# EAGLE library part STM32F107RXTX (library selwx_parts)
STM32 connectivity line LQFP64 package
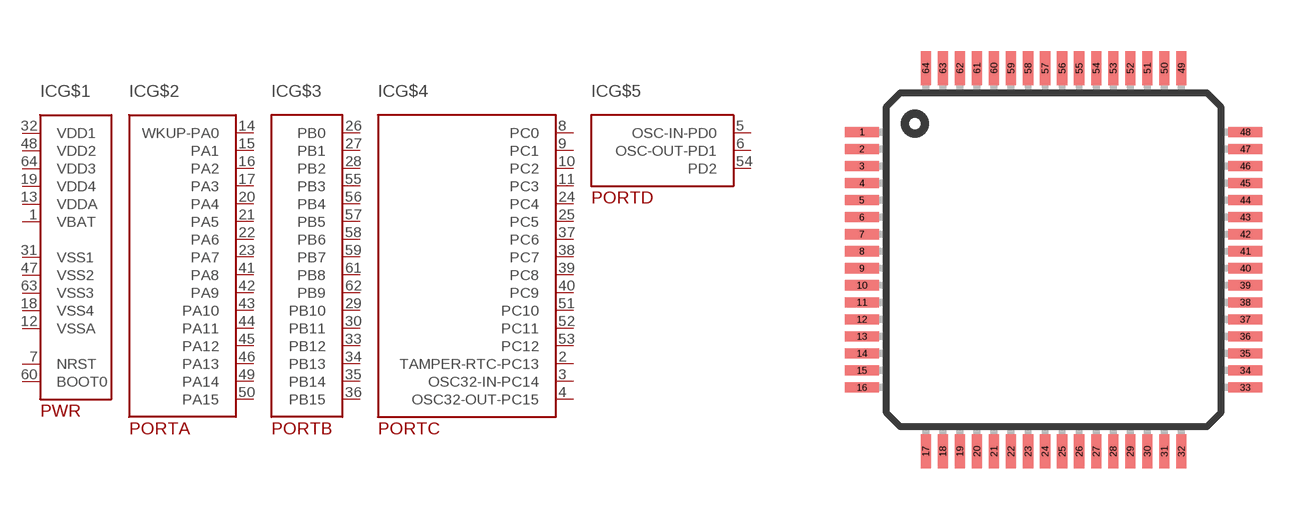
[diagram p1: symbol with the pads of LQFP64; footprint LQFP64]

Designator prefix IC; gates G$1=STM32F107RXTX_PWR G$2=STM32F107RXTX_PORTA G$3=STM32F107RXTX_PORTB G$4=STM32F107RXTX_PORTC G$5=STM32F107RXTX_PORTD

## STM32F107RXTX  [LQFP64]
1  G$1:VBAT  pwr
2  G$4:TAMPER-RTC-PC13
3  G$4:OSC32-IN-PC14
4  G$4:OSC32-OUT-PC15
5  G$5:OSC-IN-PD0
6  G$5:OSC-OUT-PD1
7  G$1:NRST
8  G$4:PC0
9  G$4:PC1
10  G$4:PC2
11  G$4:PC3
12  G$1:VSSA  pwr
13  G$1:VDDA  pwr
14  G$2:WKUP-PA0
15  G$2:PA1
16  G$2:PA2
17  G$2:PA3
18  G$1:VSS4  pwr
19  G$1:VDD4  pwr
20  G$2:PA4
21  G$2:PA5
22  G$2:PA6
23  G$2:PA7
24  G$4:PC4
25  G$4:PC5
26  G$3:PB0
27  G$3:PB1
28  G$3:PB2
29  G$3:PB10
30  G$3:PB11
31  G$1:VSS1  pwr
32  G$1:VDD1  pwr
33  G$3:PB12
34  G$3:PB13
35  G$3:PB14
36  G$3:PB15
37  G$4:PC6
38  G$4:PC7
39  G$4:PC8
40  G$4:PC9
41  G$2:PA8
42  G$2:PA9
43  G$2:PA10
44  G$2:PA11
45  G$2:PA12
46  G$2:PA13
47  G$1:VSS2  pwr
48  G$1:VDD2  pwr
49  G$2:PA14
50  G$2:PA15
51  G$4:PC10
52  G$4:PC11
53  G$4:PC12
54  G$5:PD2
55  G$3:PB3
56  G$3:PB4
57  G$3:PB5
58  G$3:PB6
59  G$3:PB7
60  G$1:BOOT0
61  G$3:PB8
62  G$3:PB9
63  G$1:VSS3  pwr
64  G$1:VDD3  pwr

## Footprint LQFP64 (pad centres in mm)
LQFP64
smd 1 x 0.3: 1 -5.625,3.75; 2 -5.625,3.25; 3 -5.625,2.75; 4 -5.625,2.25; 5 -5.625,1.75; 6 -5.625,1.25; 7 -5.625,0.75; 8 -5.625,0.25; 9 -5.625,-0.25; 10 -5.625,-0.75; 11 -5.625,-1.25; 12 -5.625,-1.75; 13 -5.625,-2.25; 14 -5.625,-2.75; 15 -5.625,-3.25; 16 -5.625,-3.75; 33 5.625,-3.75; 34 5.625,-3.25; 35 5.625,-2.75; 36 5.625,-2.25; 37 5.625,-1.75; 38 5.625,-1.25; 39 5.625,-0.75; 40 5.625,-0.25; 41 5.625,0.25; 42 5.625,0.75; 43 5.625,1.25; 44 5.625,1.75; 45 5.625,2.25; 46 5.625,2.75; 47 5.625,3.25; 48 5.625,3.75
smd 0.3 x 1: 17 -3.75,-5.625; 18 -3.25,-5.625; 19 -2.75,-5.625; 20 -2.25,-5.625; 21 -1.75,-5.625; 22 -1.25,-5.625; 23 -0.75,-5.625; 24 -0.25,-5.625; 25 0.25,-5.625; 26 0.75,-5.625; 27 1.25,-5.625; 28 1.75,-5.625; 29 2.25,-5.625; 30 2.75,-5.625; 31 3.25,-5.625; 32 3.75,-5.625; 49 3.75,5.625; 50 3.25,5.625; 51 2.75,5.625; 52 2.25,5.625; 53 1.75,5.625; 54 1.25,5.625; 55 0.75,5.625; 56 0.25,5.625; 57 -0.25,5.625; 58 -0.75,5.625; 59 -1.25,5.625; 60 -1.75,5.625; 61 -2.25,5.625; 62 -2.75,5.625; 63 -3.25,5.625; 64 -3.75,5.625